# EAGLE library part SIM5360 (library my_ic)
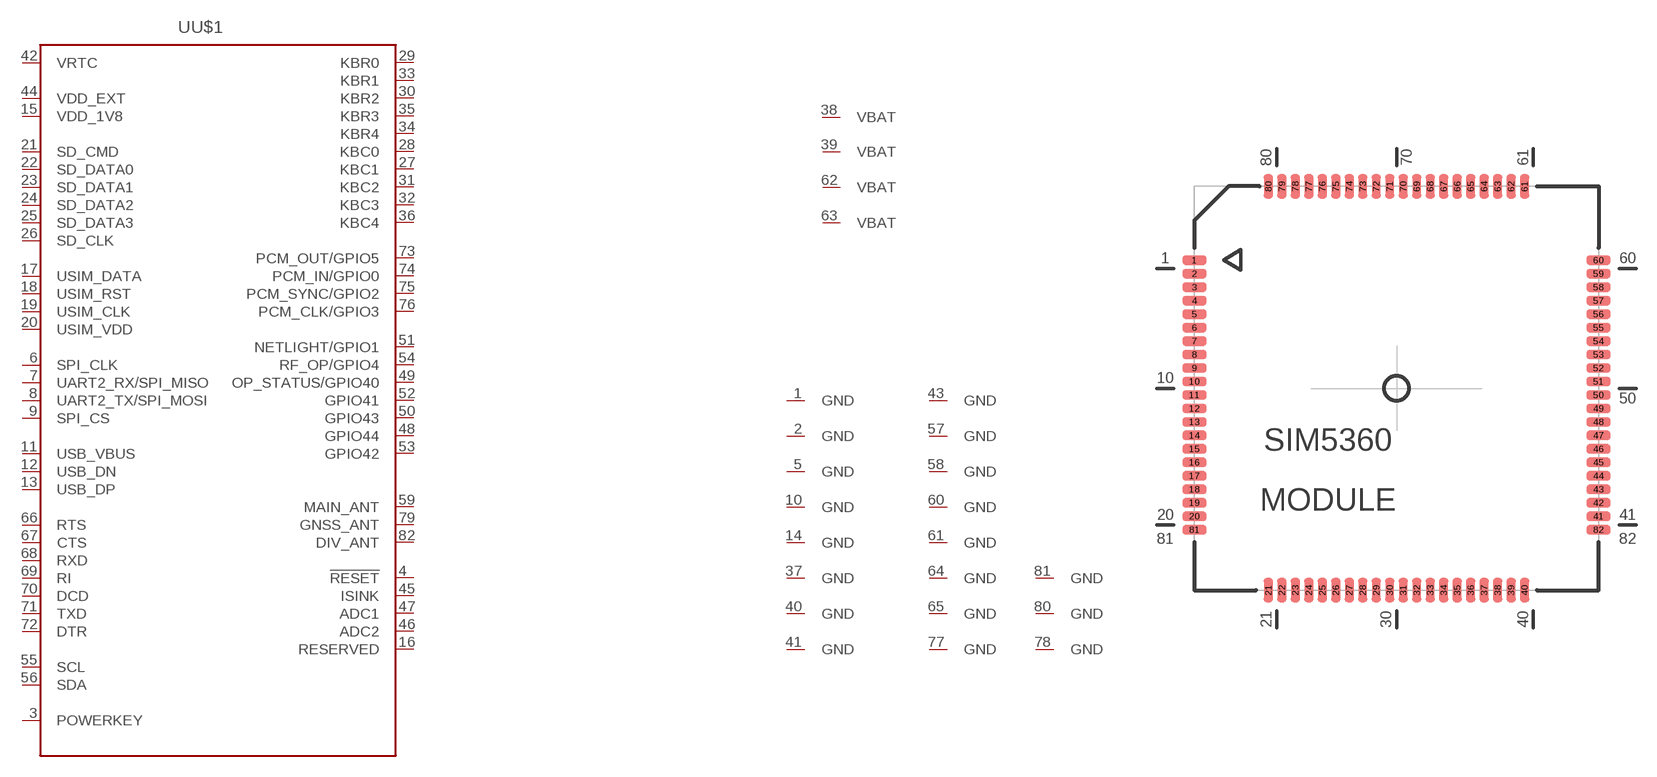
[diagram p14: symbol with the pads of SIM5360; footprint SIM5360]

Designator prefix -; gates U$1=SIM5360 GND@1=SIM5360GND GND@2=SIM5360GND GND@3=SIM5360GND GND@4=SIM5360GND GND@5=SIM5360GND GND@6=SIM5360GND GND@7=SIM5360GND GND@8=SIM5360GND GND@9=SIM5360GND GND@10=SIM5360GND GND@11=SIM5360GND GND@12=SIM5360GND GND@13=SIM5360GND GND@14=SIM5360GND GND@15=SIM5360GND GND@16=SIM5360GND GND@17=SIM5360GND GND@18=SIM5360GND GND@19=SIM5360GND VBAT@1=SIM5360VBAT VBAT@2=SIM5360VBAT VBAT@3=SIM5360VBAT VBAT@4=SIM5360VBAT

## SIM5360  [SIM5360]
1  GND@1:GND  pwr
2  GND@2:GND  pwr
3  U$1:POWERKEY
4  U$1:!RESET
5  GND@3:GND  pwr
6  U$1:SPI_CLK  out
7  U$1:UART2_RX/SPI_MISO  in
8  U$1:UART2_TX/SPI_MOSI  out
9  U$1:SPI_CS  out
10  GND@4:GND  pwr
11  U$1:USB_VBUS  pwr
12  U$1:USB_DN
13  U$1:USB_DP
14  GND@5:GND  pwr
15  U$1:VDD_1V8  pwr
16  U$1:RESERVED
17  U$1:USIM_DATA
18  U$1:USIM_RST
19  U$1:USIM_CLK
20  U$1:USIM_VDD  pwr
21  U$1:SD_CMD
22  U$1:SD_DATA0
23  U$1:SD_DATA1
24  U$1:SD_DATA2
25  U$1:SD_DATA3
26  U$1:SD_CLK
27  U$1:KBC1
28  U$1:KBC0
29  U$1:KBR0
30  U$1:KBR2
31  U$1:KBC2
32  U$1:KBC3
33  U$1:KBR1
34  U$1:KBR4
35  U$1:KBR3
36  U$1:KBC4
37  GND@6:GND  pwr
38  VBAT@1:VBAT  pwr
39  VBAT@2:VBAT  pwr
40  GND@7:GND  pwr
41  GND@8:GND  pwr
42  U$1:VRTC  pwr
43  GND@9:GND  pwr
44  U$1:VDD_EXT  pwr
45  U$1:ISINK
46  U$1:ADC2
47  U$1:ADC1
48  U$1:GPIO44
49  U$1:OP_STATUS/GPIO40
50  U$1:GPIO43
51  U$1:NETLIGHT/GPIO1
52  U$1:GPIO41
53  U$1:GPIO42
54  U$1:RF_OP/GPIO4
55  U$1:SCL
56  U$1:SDA
57  GND@10:GND  pwr
58  GND@11:GND  pwr
59  U$1:MAIN_ANT
60  GND@12:GND  pwr
61  GND@13:GND  pwr
62  VBAT@3:VBAT  pwr
63  VBAT@4:VBAT  pwr
64  GND@14:GND  pwr
65  GND@15:GND  pwr
66  U$1:RTS
67  U$1:CTS
68  U$1:RXD
69  U$1:RI
70  U$1:DCD
71  U$1:TXD
72  U$1:DTR
73  U$1:PCM_OUT/GPIO5
74  U$1:PCM_IN/GPIO0
75  U$1:PCM_SYNC/GPIO2
76  U$1:PCM_CLK/GPIO3
77  GND@16:GND  pwr
78  GND@17:GND  pwr
79  U$1:GNSS_ANT
80  GND@18:GND  pwr
81  GND@19:GND  pwr
82  U$1:DIV_ANT

## Footprint SIM5360 (pad centres in mm)
smd 1.8 x 0.7: 1 -14.986,9.5; 2 -14.986,8.5; 3 -14.986,7.5; 4 -14.986,6.5; 5 -14.986,5.5; 6 -14.986,4.5; 7 -14.986,3.5; 8 -14.986,2.5; 9 -14.986,1.5; 10 -14.986,0.5; 11 -14.986,-0.5; 12 -14.986,-1.5; 13 -14.986,-2.5; 14 -14.986,-3.5; 15 -14.986,-4.5; 16 -14.986,-5.5; 17 -14.986,-6.5; 18 -14.986,-7.5; 19 -14.986,-8.5; 20 -14.986,-9.5; 41 14.986,-9.5; 42 14.986,-8.5; 43 14.986,-7.5; 44 14.986,-6.5; 45 14.986,-5.5; 46 14.986,-4.5; 47 14.986,-3.5; 48 14.986,-2.5; 49 14.986,-1.5; 50 14.986,-0.5; 51 14.986,0.5; 52 14.986,1.5; 53 14.986,2.5; 54 14.986,3.5; 55 14.986,4.5; 56 14.986,5.5; 57 14.986,6.5; 58 14.986,7.5; 59 14.986,8.5; 60 14.986,9.5; 81 -14.986,-10.5; 82 14.986,-10.5
smd 0.7 x 1.8: 21 -9.5,-14.986; 22 -8.5,-14.986; 23 -7.5,-14.986; 24 -6.5,-14.986; 25 -5.5,-14.986; 26 -4.5,-14.986; 27 -3.5,-14.986; 28 -2.5,-14.986; 29 -1.5,-14.986; 30 -0.5,-14.986; 31 0.5,-14.986; 32 1.5,-14.986; 33 2.5,-14.986; 34 3.5,-14.986; 35 4.5,-14.986; 36 5.5,-14.986; 37 6.5,-14.986; 38 7.5,-14.986; 39 8.5,-14.986; 40 9.5,-14.986; 61 9.5,14.986; 62 8.5,14.986; 63 7.5,14.986; 64 6.5,14.986; 65 5.5,14.986; 66 4.5,14.986; 67 3.5,14.986; 68 2.5,14.986; 69 1.5,14.986; 70 0.5,14.986; 71 -0.5,14.986; 72 -1.5,14.986; 73 -2.5,14.986; 74 -3.5,14.986; 75 -4.5,14.986; 76 -5.5,14.986; 77 -6.5,14.986; 78 -7.5,14.986; 79 -8.5,14.986; 80 -9.5,14.986